# EAGLE library part PIC18F2320 (library den)
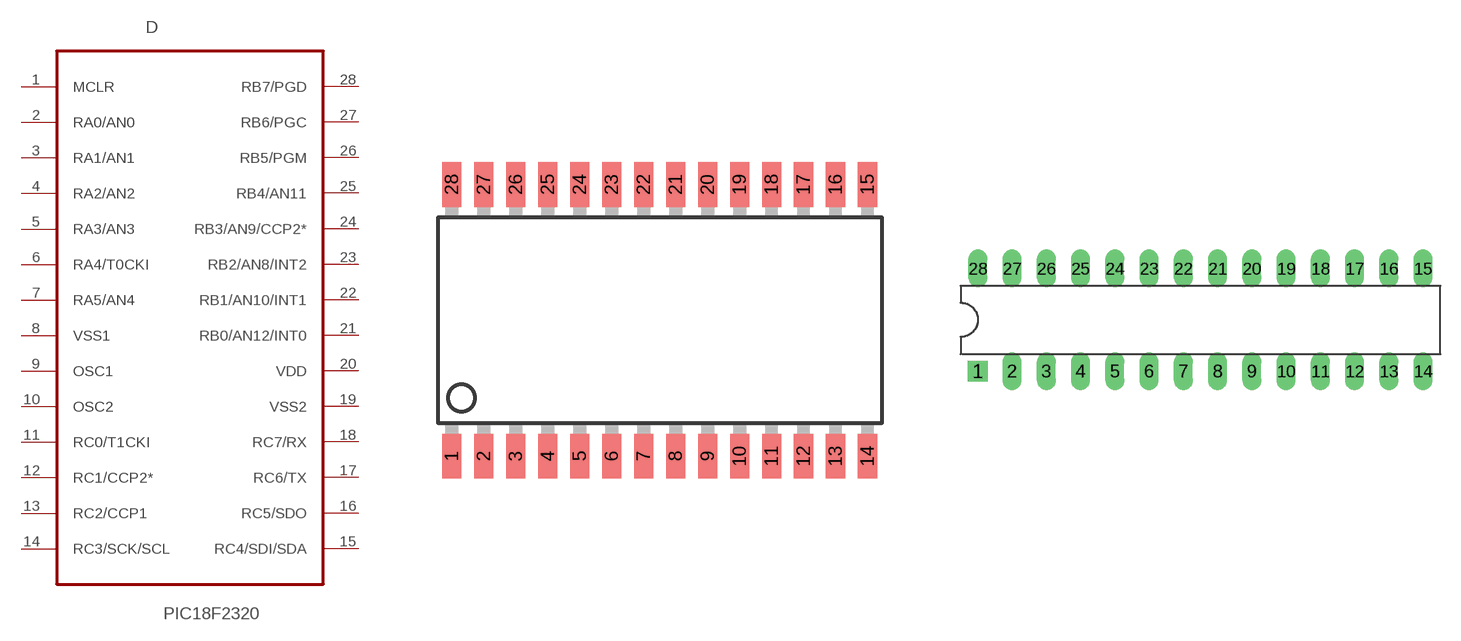
[diagram p16: symbol with the pads of SO-28W; footprints SO-28W, DIL28-3]

Designator prefix D

## PIC18F2320  [SO-28W]
1  MCLR
2  RA0/AN0
3  RA1/AN1
4  RA2/AN2
5  RA3/AN3
6  RA4/T0CKI
7  RA5/AN4
8  VSS1
9  OSC1
10  OSC2
11  RC0/T1CKI
12  RC1/CCP2*
13  RC2/CCP1
14  RC3/SCK/SCL
15  RC4/SDI/SDA
16  RC5/SDO
17  RC6/TX
18  RC7/RX
19  VSS2
20  VDD
21  RB0/AN12/INT0
22  RB1/AN10/INT1
23  RB2/AN8/INT2
24  RB3/AN9/CCP2*
25  RB4/AN11
26  RB5/PGM
27  RB6/PGC
28  RB7/PGD

## PIC18F2320DIP  [DIL28-3]
Pads as for SO-28W

## Footprint SO-28W (pad centres in mm)
Small Outline Wide Plastic Gull Wing 300-mil body, package type SO
smd 0.762 x 1.778: 1 -7.62,-5.461; 2 -6.35,-5.461; 3 -5.08,-5.461; 4 -3.81,-5.461; 5 -2.54,-5.461; 6 -1.27,-5.461; 7 0,-5.461; 8 1.27,-5.461; 9 2.54,-5.461; 10 3.81,-5.461; 11 5.08,-5.461; 12 6.35,-5.461; 13 7.62,-5.461; 14 8.89,-5.461; 15 8.89,5.334; 16 7.62,5.334; 17 6.35,5.334; 18 5.08,5.334; 19 3.81,5.334; 20 2.54,5.334; 21 1.27,5.334; 22 0,5.334; 23 -1.27,5.334; 24 -2.54,5.334; 25 -3.81,5.334; 26 -5.08,5.334; 27 -6.35,5.334; 28 -7.62,5.334

## Footprint DIL28-3 (pad centres in mm)
Dual In Line package type P
drill 0.8 pad 1.5 square: 1 -16.51,-3.81
drill 0.8 pad 1.4 long: 2 -13.97,-3.81; 3 -11.43,-3.81; 4 -8.89,-3.81; 5 -6.35,-3.81; 6 -3.81,-3.81; 7 -1.27,-3.81; 8 1.27,-3.81; 9 3.81,-3.81; 10 6.35,-3.81; 11 8.89,-3.81; 12 11.43,-3.81; 13 13.97,-3.81; 14 16.51,-3.81; 15 16.51,3.81; 16 13.97,3.81; 17 11.43,3.81; 18 8.89,3.81; 19 6.35,3.81; 20 3.81,3.81; 21 1.27,3.81; 22 -1.27,3.81; 23 -3.81,3.81; 24 -6.35,3.81; 25 -8.89,3.81; 26 -11.43,3.81; 27 -13.97,3.81; 28 -16.51,3.81